# Altium footprint library IRL540NSTRLPBF.PcbLib: 3 footprints
Each footprint in its own frame and in the unit in brackets; x right, y up, seen from the top. Pads: shape width x height; smd on the part's side, far side on the other; paste and mask are expansions set on the pad; w line width, h text height; cw(c..) or ccw(c..) is an arc to the next point about the centre after c.
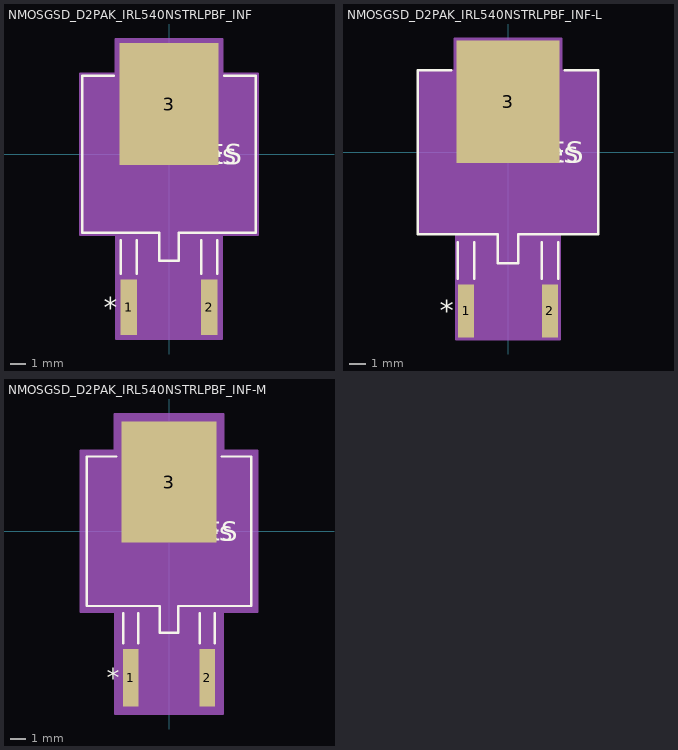
[diagram p0: the footprints below, top view; thin cyan lines are the x and y axes]

## NMOSGSD_D2PAK_IRL540NSTRLPBF_INF [mil]
pads (3):
  rect 41x138 smd paste+0 mask+0: 1(-100,-380) 2(100,-380)
  rect 247x303 smd paste+0 mask+0: 3(0,124.5)
Top Overlay:
  lines w6: -136.6,195 -215,195 -215,-195 -24.5,-195 -24.5,-265 24.5,-265 24.5,-195 215,-195 215,195 136.6,195 ; -119.5,-297 -119.5,-214 ; -80.5,-297 -80.5,-214 ; 80.5,-297 80.5,-214 ; 119.5,-297 119.5,-214
  text "REFDES" at -87.5,-25 h50
  text "*" at -162.5,-405 h50
  text "RefDes" at -75,-25 h50
Mechanical 13:
  lines w1: -210,-190 210,-190 210,190 -210,190 -210,-190 ; -119.5,-435 -119.5,-190 -80.5,-190 -80.5,-435 -119.5,-435 ; -19.5,-260 -19.5,-190 19.5,-190 19.5,-260 -19.5,-260 ; 80.5,-435 80.5,-190 119.5,-190 119.5,-435 80.5,-435
  text "*" at -112.5,-205 h50
  text "RefDes2" at -87.5,-25 h50
Mechanical 15:
  region: -220,-200 -220,200 -132.5,200 -132.5,286 132.5,286 132.5,200 220,200 220,-200 130.5,-200 130.5,-459 -130.5,-459 -130.5,-200
  lines w6: -220,-200 -220,200 -132.5,200 -132.5,286 132.5,286 132.5,200 220,200 220,-200 130.5,-200 130.5,-459 -130.5,-459 -130.5,-200 -220,-200

## NMOSGSD_D2PAK_IRL540NSTRLPBF_INF-L [mil]
pads (3):
  rect 39x126 smd paste+0 mask+0: 1(-100,-378) 2(100,-378)
  rect 245x291 smd paste+0 mask+0: 3(0,120.5)
Top Overlay:
  lines w6: -135.6,195 -215,195 -215,-195 -24.5,-195 -24.5,-265 24.5,-265 24.5,-195 215,-195 215,195 135.6,195 ; -119.5,-301 -119.5,-214 ; -80.5,-301 -80.5,-214 ; 80.5,-301 80.5,-214 ; 119.5,-301 119.5,-214
  text "REFDES" at -87.5,-25 h50
  text "*" at -162.5,-403 h50
  text "RefDes" at -75,-25 h50
Mechanical 13:
  lines w1: -210,-190 210,-190 210,190 -210,190 -210,-190 ; -119.5,-435 -119.5,-190 -80.5,-190 -80.5,-435 -119.5,-435 ; -19.5,-260 -19.5,-190 19.5,-190 19.5,-260 -19.5,-260 ; 80.5,-435 80.5,-190 119.5,-190 119.5,-435 80.5,-435
  text "*" at -112.5,-205 h50
  text "RefDes2" at -87.5,-25 h50
Mechanical 15:
  region: -214,-194 -214,194 -126.5,194 -126.5,270 126.5,270 126.5,194 214,194 214,-194 123.5,-194 123.5,-445 -123.5,-445 -123.5,-194
  lines w6: -214,-194 -214,194 -126.5,194 -126.5,270 126.5,270 126.5,194 214,194 214,-194 123.5,-194 123.5,-445 -123.5,-445 -123.5,-194 -214,-194

## NMOSGSD_D2PAK_IRL540NSTRLPBF_INF-M [mil]
pads (3):
  rect 41x150 smd paste+0 mask+0: 1(-100,-382) 2(100,-382)
  rect 249x315 smd paste+0 mask+0: 3(0,128.5)
Top Overlay:
  lines w6: -137.6,195 -215,195 -215,-195 -24.5,-195 -24.5,-265 24.5,-265 24.5,-195 215,-195 215,195 137.6,195 ; -119.5,-293 -119.5,-214 ; -80.5,-293 -80.5,-214 ; 80.5,-293 80.5,-214 ; 119.5,-293 119.5,-214
  text "REFDES" at -87.5,-25 h50
  text "*" at -162.5,-407 h50
  text "RefDes" at -75,-25 h50
Mechanical 13:
  lines w1: -210,-190 210,-190 210,190 -210,190 -210,-190 ; -119.5,-435 -119.5,-190 -80.5,-190 -80.5,-435 -119.5,-435 ; -19.5,-260 -19.5,-190 19.5,-190 19.5,-260 -19.5,-260 ; 80.5,-435 80.5,-190 119.5,-190 119.5,-435 80.5,-435
  text "*" at -112.5,-205 h50
  text "RefDes2" at -87.5,-25 h50
Mechanical 15:
  region: -230,-210 -230,210 -142.5,210 -142.5,306 142.5,306 142.5,210 230,210 230,-210 140.5,-210 140.5,-477 -140.5,-477 -140.5,-210
  lines w6: -230,-210 -230,210 -142.5,210 -142.5,306 142.5,306 142.5,210 230,210 230,-210 140.5,-210 140.5,-477 -140.5,-477 -140.5,-210 -230,-210